# EAGLE library part RTL8019AS (library custom-2002)
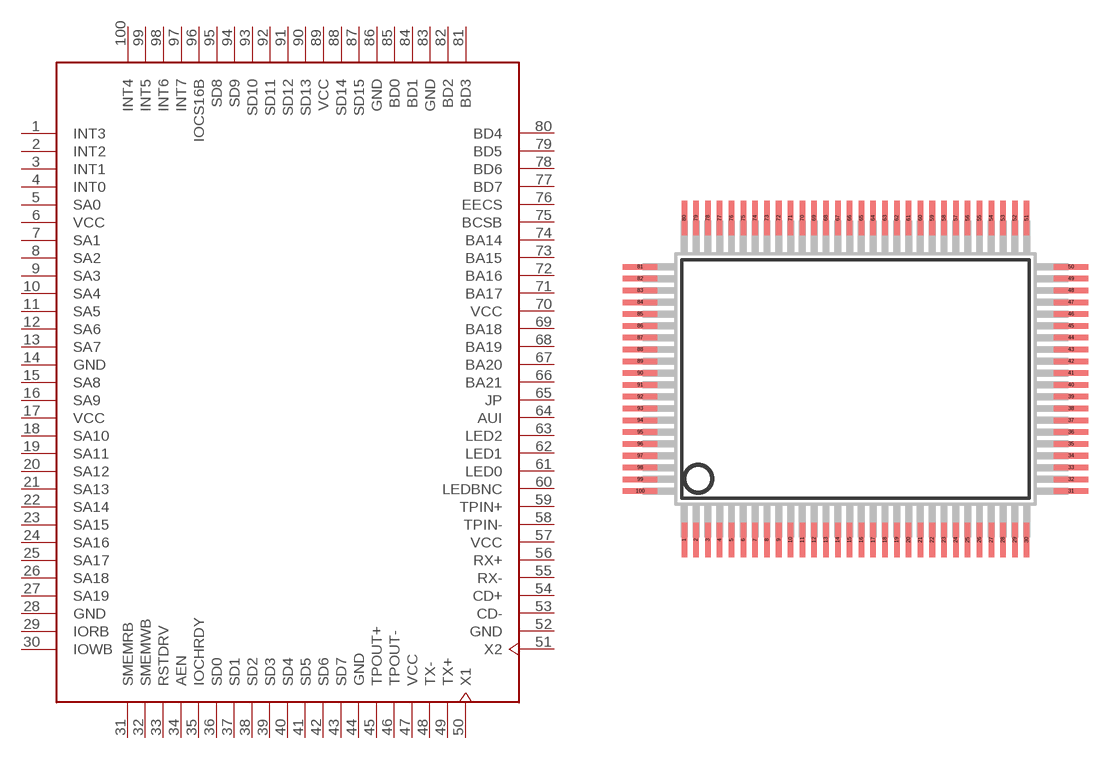
[diagram p18: symbol with the pads of QFP100; footprint QFP100]

Designator prefix -

## RTL8019AS  [QFP100]
1  INT3
2  INT2
3  INT1
4  INT0
5  SA0
6  VCC  pwr
7  SA1
8  SA2
9  SA3
10  SA4
11  SA5
12  SA6
13  SA7
14  GND  pwr
15  SA8
16  SA9
17  VCC  pwr
18  SA10
19  SA11
20  SA12
21  SA13
22  SA14
23  SA15
24  SA16
25  SA17
26  SA18
27  SA19
28  GND  pwr
29  IORB
30  IOWB
31  SMEMRB
32  SMEMWB
33  RSTDRV
34  AEN
35  IOCHRDY
36  SD0
37  SD1
38  SD2
39  SD3
40  SD4
41  SD5
42  SD6
43  SD7
44  GND  pwr
45  TPOUT+
46  TPOUT-
47  VCC  pwr
48  TX-
49  TX+
50  X1
51  X2
52  GND  pwr
53  CD-
54  CD+
55  RX-
56  RX+
57  VCC  pwr
58  TPIN-
59  TPIN+
60  LEDBNC
61  LED0
62  LED1
63  LED2
64  AUI
65  JP
66  BA21
67  BA20
68  BA19
69  BA18
70  VCC  pwr
71  BA17
72  BA16
73  BA15
74  BA14
75  BCSB
76  EECS
77  BD7
78  BD6
79  BD5
80  BD4
81  BD3
82  BD2
83  GND  pwr
84  BD1
85  BD0
86  GND  pwr
87  SD15
88  SD14
89  VCC  pwr
90  SD13
91  SD12
92  SD11
93  SD10
94  SD9
95  SD8
96  IOCS16B
97  INT7
98  INT6
99  INT5
100  INT4

## Footprint QFP100 (pad centres in mm)
smd 0.305 x 1.905: 1 -8.79,-8.862; 2 -8.14,-8.862; 3 -7.49,-8.862; 4 -6.84,-8.862; 5 -6.19,-8.862; 6 -5.54,-8.862; 7 -4.89,-8.862; 8 -4.24,-8.862; 9 -3.59,-8.862; 10 -2.94,-8.862; 11 -2.29,-8.862; 12 -1.64,-8.862; 13 -0.99,-8.862; 14 -0.34,-8.862; 15 0.31,-8.862; 16 0.96,-8.862; 17 1.61,-8.862; 18 2.26,-8.862; 19 2.91,-8.862; 20 3.56,-8.862; 21 4.21,-8.862; 22 4.86,-8.862; 23 5.51,-8.862; 24 6.16,-8.862; 25 6.81,-8.862; 26 7.46,-8.862; 27 8.11,-8.862; 28 8.76,-8.862; 29 9.41,-8.862; 30 10.06,-8.862; 51 10.06,8.862; 52 9.41,8.862; 53 8.76,8.862; 54 8.11,8.862; 55 7.46,8.862; 56 6.81,8.862; 57 6.16,8.862; 58 5.51,8.862; 59 4.86,8.862; 60 4.21,8.862; 61 3.56,8.862; 62 2.91,8.862; 63 2.26,8.862; 64 1.61,8.862; 65 0.96,8.862; 66 0.31,8.862; 67 -0.34,8.862; 68 -0.99,8.862; 69 -1.64,8.862; 70 -2.29,8.862; 71 -2.94,8.862; 72 -3.59,8.862; 73 -4.24,8.862; 74 -4.89,8.862; 75 -5.54,8.862; 76 -6.19,8.862; 77 -6.84,8.862; 78 -7.49,8.862; 79 -8.14,8.862; 80 -8.79,8.862
smd 1.905 x 0.305: 31 12.497,-6.175; 32 12.497,-5.525; 33 12.497,-4.875; 34 12.497,-4.225; 35 12.497,-3.575; 36 12.497,-2.925; 37 12.497,-2.275; 38 12.497,-1.625; 39 12.497,-0.975; 40 12.497,-0.325; 41 12.497,0.325; 42 12.497,0.975; 43 12.497,1.625; 44 12.497,2.275; 45 12.497,2.925; 46 12.497,3.575; 47 12.497,4.225; 48 12.497,4.875; 49 12.497,5.525; 50 12.497,6.175; 81 -11.227,6.175; 82 -11.227,5.525; 83 -11.227,4.875; 84 -11.227,4.225; 85 -11.227,3.575; 86 -11.227,2.925; 87 -11.227,2.275; 88 -11.227,1.625; 89 -11.227,0.975; 90 -11.227,0.325; 91 -11.227,-0.325; 92 -11.227,-0.975; 93 -11.227,-1.625; 94 -11.227,-2.275; 95 -11.227,-2.925; 96 -11.227,-3.575; 97 -11.227,-4.225; 98 -11.227,-4.875; 99 -11.227,-5.525; 100 -11.227,-6.175